# Altium footprint library DCJ20010AK1K.PcbLib: 1 footprints
Each footprint in its own frame and in the unit in brackets; x right, y up, seen from the top. Pads: shape width x height; smd on the part's side, far side on the other; paste and mask are expansions set on the pad; w line width, h text height; cw(c..) or ccw(c..) is an arc to the next point about the centre after c.
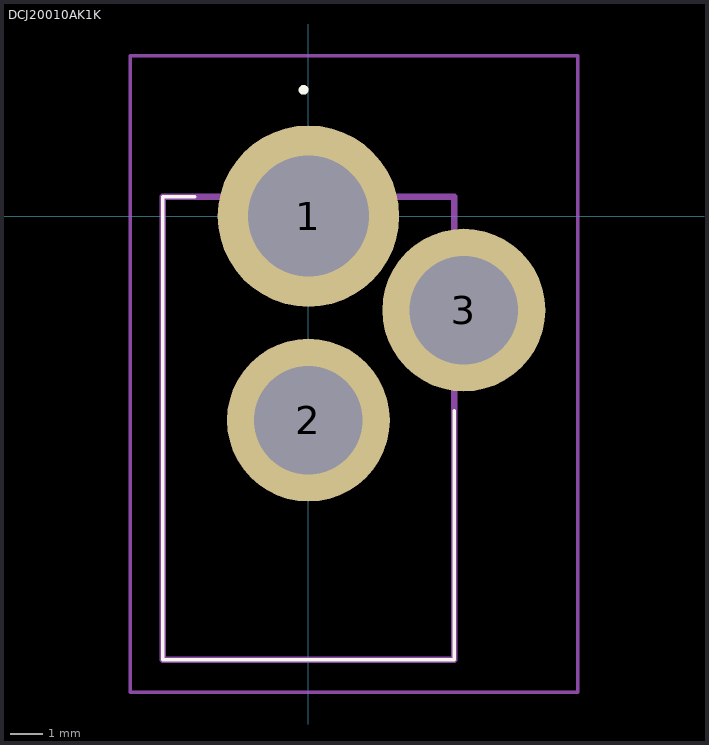
[diagram p0: the footprint, top view; thin cyan lines are the x and y axes]

## DCJ20010AK1K [mm]
pads (3):
  round 5.604 hole 3.736 mask+0.102: 1(0,0)
  round 5.028 hole 3.352 mask+0.102: 2(0,-6.3) 3(4.8,-2.9)
Top Overlay:
  lines w0.1: -4.5,-13.7 4.5,-13.7 ; -4.5,-13.7 4.5,-13.7 ; -4.5,-13.7 -4.5,0.6 ; -4.5,-13.7 -4.5,0.6 ; -4.5,0.6 -3.5,0.6 -4.5,0.6 ; 4.5,-13.7 4.5,-6 4.5,-13.7
  lines w0.2: -0.2,3.9 ccw(c-0.15,3.9) -0.1,3.9 ; -0.2,3.9 cw(c-0.15,3.9) -0.1,3.9 ; -0.2,3.9 ccw(c-0.15,3.9) -0.1,3.9
Assembly Top:
  lines w0.1: -5.5,-14.7 -5.5,4.95 8.314,4.95 8.314,-14.7 -5.5,-14.7
  lines w0.2: -4.5,-13.7 -4.5,0.6 4.5,0.6 4.5,-13.7 -4.5,-13.7
3D body "step_temp.STEP": height 11, standoff -3.5, extent -4.5,-13.45 5.05,0.85